# Altium footprint library AltiumDesigner.PcbLib: 3 footprints
Each footprint in its own frame and in the unit in brackets; x right, y up, seen from the top. Pads: shape width x height; smd on the part's side, far side on the other; paste and mask are expansions set on the pad; w line width, h text height; cw(c..) or ccw(c..) is an arc to the next point about the centre after c.
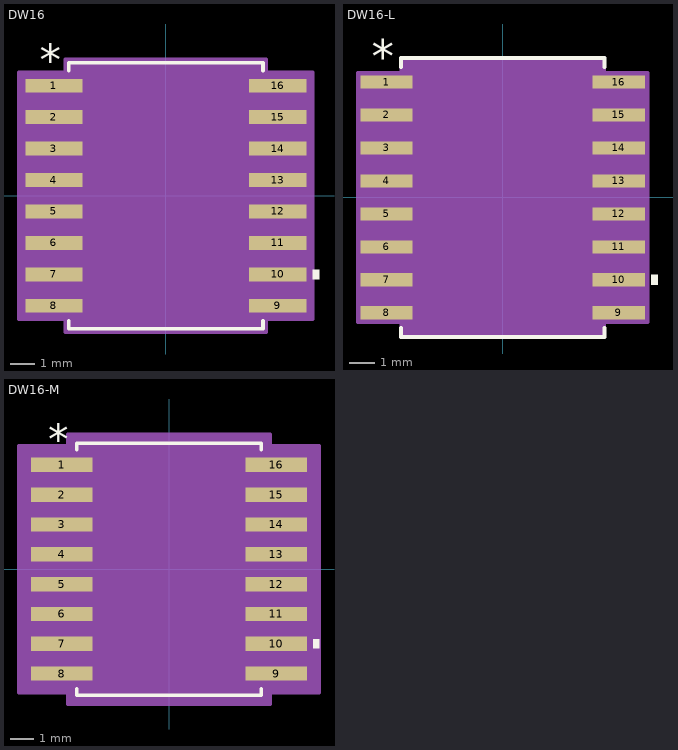
[diagram p0: the footprints below, top view; thin cyan lines are the x and y axes]

## DW16 [mil]
pads (16):
  rect 91x22 smd paste+0 mask+0: 1(-178,175) 2(-178,125) 3(-178,75) 4(-178,25) 5(-178,-25) 6(-178,-75) 7(-178,-125) 8(-178,-175) 9(178,-175) 10(178,-125) 11(178,-75) 12(178,-25) 13(178,25) 14(178,75) 15(178,125) 16(178,175)
Top Overlay:
  region: 233.5,-117.5 243.5,-117.5 243.5,-132.5 233.5,-132.5
  lines w6: -154.5,-199.1 -154.5,-211.5 154.5,-211.5 154.5,-199.1 ; -154.5,199.1 -154.5,211.5 154.5,211.5 154.5,199.1
  text "*" at -200.5,192 h50
Mechanical 13:
  lines w0: -12,206.5 ccw(c0,206.5) 12,206.5
  lines w1: -209.5,-185 -209.5,-165 -149.5,-165 -149.5,-185 -209.5,-185 ; -209.5,-135 -209.5,-115 -149.5,-115 -149.5,-135 -209.5,-135 ; -209.5,-85 -209.5,-65 -149.5,-65 -149.5,-85 -209.5,-85 ; -209.5,-35 -209.5,-15 -149.5,-15 -149.5,-35 -209.5,-35 ; -209.5,15 -209.5,35 -149.5,35 -149.5,15 -209.5,15 ; -209.5,65 -209.5,85 -149.5,85 -149.5,65 -209.5,65 ; -209.5,115 -209.5,135 -149.5,135 -149.5,115 -209.5,115 ; -209.5,165 -209.5,185 -149.5,185 -149.5,165 -209.5,165 ; -149.5,-206.5 149.5,-206.5 149.5,206.5 -149.5,206.5 -149.5,-206.5 ; 149.5,-185 149.5,-165 209.5,-165 209.5,-185 149.5,-185 ; 149.5,-135 149.5,-115 209.5,-115 209.5,-135 149.5,-135 ; 149.5,-85 149.5,-65 209.5,-65 209.5,-85 149.5,-85 ; 149.5,-35 149.5,-15 209.5,-15 209.5,-35 149.5,-35 ; 149.5,15 149.5,35 209.5,35 209.5,15 149.5,15 ; 149.5,65 149.5,85 209.5,85 209.5,65 149.5,65 ; 149.5,115 149.5,135 209.5,135 209.5,115 149.5,115 ; 149.5,165 149.5,185 209.5,185 209.5,165 149.5,165
  text "*" at -147,153.5 h50
Mechanical 15:
  region: -159.5,-196 -233.5,-196 -233.5,196 -159.5,196 -159.5,216.5 159.5,216.5 159.5,196 233.5,196 233.5,-196 159.5,-196 159.5,-216.5 -159.5,-216.5
  lines w6: -233.5,-196 -233.5,196 -159.5,196 -159.5,216.5 159.5,216.5 159.5,196 233.5,196 233.5,-196 159.5,-196 159.5,-216.5 -159.5,-216.5 -159.5,-196 -233.5,-196
3D body: height 10, standoff 0, extent 0,0 10,10

## DW16-L [mil]
pads (16):
  rect 79x20 smd paste+0 mask+0: 1(-176,175) 2(-176,125) 3(-176,75) 4(-176,25) 5(-176,-25) 6(-176,-75) 7(-176,-125) 8(-176,-175) 9(176,-175) 10(176,-125) 11(176,-75) 12(176,-25) 13(176,25) 14(176,75) 15(176,125) 16(176,175)
Top Overlay:
  region: 225.5,-117.5 235.5,-117.5 235.5,-132.5 225.5,-132.5
  lines w6: -154.5,-198.1 -154.5,-211.5 154.5,-211.5 154.5,-198.1 ; -154.5,198.1 -154.5,211.5 154.5,211.5 154.5,198.1
  text "*" at -198.5,190 h50
Mechanical 13:
  lines w0: -12,206.5 ccw(c0,206.5) 12,206.5
  lines w1: -209.5,-185 -209.5,-165 -149.5,-165 -149.5,-185 -209.5,-185 ; -209.5,-135 -209.5,-115 -149.5,-115 -149.5,-135 -209.5,-135 ; -209.5,-85 -209.5,-65 -149.5,-65 -149.5,-85 -209.5,-85 ; -209.5,-35 -209.5,-15 -149.5,-15 -149.5,-35 -209.5,-35 ; -209.5,15 -209.5,35 -149.5,35 -149.5,15 -209.5,15 ; -209.5,65 -209.5,85 -149.5,85 -149.5,65 -209.5,65 ; -209.5,115 -209.5,135 -149.5,135 -149.5,115 -209.5,115 ; -209.5,165 -209.5,185 -149.5,185 -149.5,165 -209.5,165 ; -149.5,-206.5 149.5,-206.5 149.5,206.5 -149.5,206.5 -149.5,-206.5 ; 149.5,-185 149.5,-165 209.5,-165 209.5,-185 149.5,-185 ; 149.5,-135 149.5,-115 209.5,-115 209.5,-135 149.5,-135 ; 149.5,-85 149.5,-65 209.5,-65 209.5,-85 149.5,-85 ; 149.5,-35 149.5,-15 209.5,-15 209.5,-35 149.5,-35 ; 149.5,15 149.5,35 209.5,35 209.5,15 149.5,15 ; 149.5,65 149.5,85 209.5,85 209.5,65 149.5,65 ; 149.5,115 149.5,135 209.5,135 209.5,115 149.5,115 ; 149.5,165 149.5,185 209.5,185 209.5,165 149.5,165
  text "*" at -147,153.5 h50
Mechanical 15:
  region: -153.5,-189 -219.5,-189 -219.5,189 -153.5,189 -153.5,210.5 153.5,210.5 153.5,189 219.5,189 219.5,-189 153.5,-189 153.5,-210.5 -153.5,-210.5
  lines w6: -219.5,-189 -219.5,189 -153.5,189 -153.5,210.5 153.5,210.5 153.5,189 219.5,189 219.5,-189 153.5,-189 153.5,-210.5 -153.5,-210.5 -153.5,-189 -219.5,-189
3D body: height 10, standoff 0, extent 0,0 10,10

## DW16-M [mil]
pads (16):
  rect 103x24 smd paste+0 mask+0: 1(-180,175) 2(-180,125) 3(-180,75) 4(-180,25) 5(-180,-25) 6(-180,-75) 7(-180,-125) 8(-180,-175) 9(180,-175) 10(180,-125) 11(180,-75) 12(180,-25) 13(180,25) 14(180,75) 15(180,125) 16(180,175)
Top Overlay:
  region: 241.5,-117.5 251.5,-117.5 251.5,-132.5 241.5,-132.5
  lines w6: -154.5,-200.1 -154.5,-211.5 154.5,-211.5 154.5,-200.1 ; -154.5,200.1 -154.5,211.5 154.5,211.5 154.5,200.1
  text "*" at -202.5,194 h50
Mechanical 13:
  lines w0: -12,206.5 ccw(c0,206.5) 12,206.5
  lines w1: -209.5,-185 -209.5,-165 -149.5,-165 -149.5,-185 -209.5,-185 ; -209.5,-135 -209.5,-115 -149.5,-115 -149.5,-135 -209.5,-135 ; -209.5,-85 -209.5,-65 -149.5,-65 -149.5,-85 -209.5,-85 ; -209.5,-35 -209.5,-15 -149.5,-15 -149.5,-35 -209.5,-35 ; -209.5,15 -209.5,35 -149.5,35 -149.5,15 -209.5,15 ; -209.5,65 -209.5,85 -149.5,85 -149.5,65 -209.5,65 ; -209.5,115 -209.5,135 -149.5,135 -149.5,115 -209.5,115 ; -209.5,165 -209.5,185 -149.5,185 -149.5,165 -209.5,165 ; -149.5,-206.5 149.5,-206.5 149.5,206.5 -149.5,206.5 -149.5,-206.5 ; 149.5,-185 149.5,-165 209.5,-165 209.5,-185 149.5,-185 ; 149.5,-135 149.5,-115 209.5,-115 209.5,-135 149.5,-135 ; 149.5,-85 149.5,-65 209.5,-65 209.5,-85 149.5,-85 ; 149.5,-35 149.5,-15 209.5,-15 209.5,-35 149.5,-35 ; 149.5,15 149.5,35 209.5,35 209.5,15 149.5,15 ; 149.5,65 149.5,85 209.5,85 209.5,65 149.5,65 ; 149.5,115 149.5,135 209.5,135 209.5,115 149.5,115 ; 149.5,165 149.5,185 209.5,185 209.5,165 149.5,165
  text "*" at -147,153.5 h50
Mechanical 15:
  region: -169.5,-207 -251.5,-207 -251.5,207 -169.5,207 -169.5,226.5 169.5,226.5 169.5,207 251.5,207 251.5,-207 169.5,-207 169.5,-226.5 -169.5,-226.5
  lines w6: -251.5,-207 -251.5,207 -169.5,207 -169.5,226.5 169.5,226.5 169.5,207 251.5,207 251.5,-207 169.5,-207 169.5,-226.5 -169.5,-226.5 -169.5,-207 -251.5,-207
3D body: height 10, standoff 0, extent 0,0 10,10